# EAGLE library part MOD-WIFI-ESP8266-DEV (library ESP8266)
Olimex Development board Online Shop <https://www.olimex.com/Products/Modules/Ethernet/MOD-WIFI-ESP8266-DEV/open-source-hardware#>
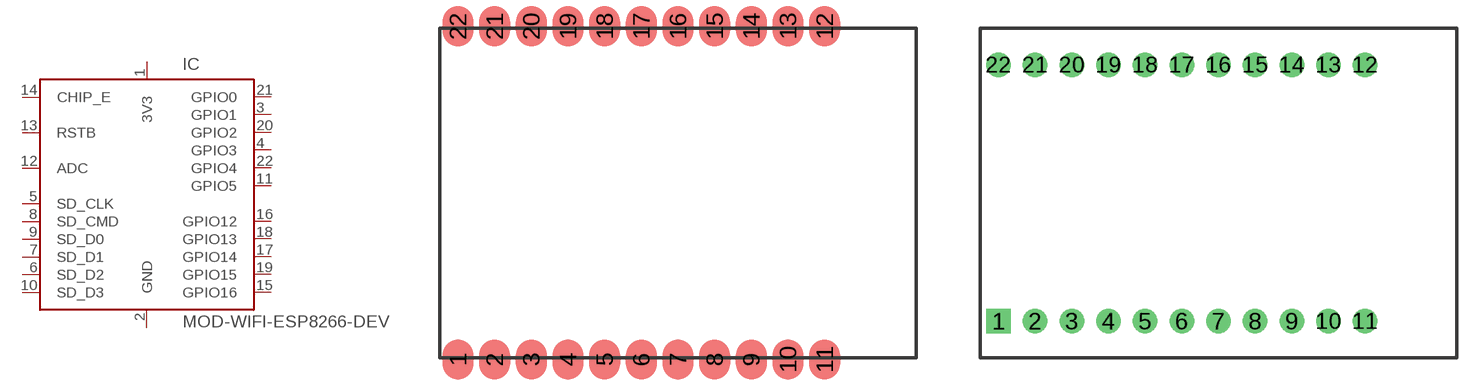
[diagram p0: symbol with the pads of MOD-WIFI-ESP8266-DEV_SMD; footprints MOD-WIFI-ESP8266-DEV_SMD, MOD-WIFI-ESP8266-DEV_THD]

Designator prefix IC

## MOD-WIFI-ESP8266-DEV_SMD  [MOD-WIFI-ESP8266-DEV_SMD]
1  3V3  sup
2  GND  sup
3  GPIO1
4  GPIO3
5  SD_CLK
6  SD_D2
7  SD_D1
8  SD_CMD
9  SD_D0
10  SD_D3
11  GPIO5
12  ADC
13  RSTB  in
14  CHIP_E  in
15  GPIO16
16  GPIO12
17  GPIO14
18  GPIO13  pwr
19  GPIO15  pwr
20  GPIO2
21  GPIO0
22  GPIO4

## MOD-WIFI-ESP8266-DEV_THD  [MOD-WIFI-ESP8266-DEV_THD]
Pads as for MOD-WIFI-ESP8266-DEV_SMD

## Footprint MOD-WIFI-ESP8266-DEV_SMD (pad centres in mm)
smd 2.159 x 2.794: 1 1.27,0.508; 2 3.81,0.508; 3 6.35,0.508; 4 8.89,0.508; 5 11.43,0.508; 6 13.97,0.508; 7 16.51,0.508; 8 19.05,0.508; 9 21.59,0.508; 10 24.13,0.508; 11 26.67,0.508; 12 26.67,23.622; 13 24.13,23.622; 14 21.59,23.622; 15 19.05,23.622; 16 16.51,23.622; 17 13.97,23.622; 18 11.43,23.622; 19 8.89,23.622; 20 6.35,23.622; 21 3.81,23.622; 22 1.27,23.622

## Footprint MOD-WIFI-ESP8266-DEV_THD (pad centres in mm)
drill 1 pad 1.7 square: 1 1.27,3.175
drill 1 pad 1.7: 2 3.81,3.175; 3 6.35,3.175; 4 8.89,3.175; 5 11.43,3.175; 6 13.97,3.175; 7 16.51,3.175; 8 19.05,3.175; 9 21.59,3.175; 10 24.13,3.175; 11 26.67,3.175; 12 26.67,20.955; 13 24.13,20.955; 14 21.59,20.955; 15 19.05,20.955; 16 16.51,20.955; 17 13.97,20.955; 18 11.43,20.955; 19 8.89,20.955; 20 6.35,20.955; 21 3.81,20.955; 22 1.27,20.955